# EAGLE library part MECHANICAL_USB-AB-MINI (library chipKIT_Max32)
Kycon KMAB-SMT-5S Mini USB AB type connector
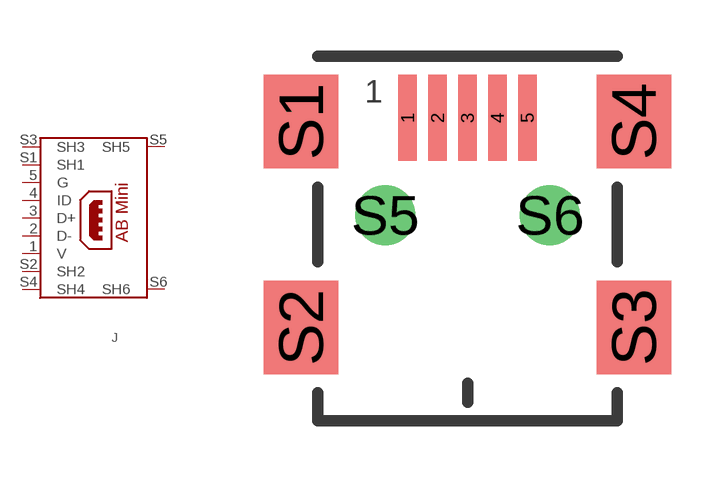
[diagram p7: symbol with the pads of MECHANICAL_USB-AB-MINI; footprint MECHANICAL_USB-AB-MINI]

Designator prefix J

## MECHANICAL_USB-AB-MINI  [MECHANICAL_USB-AB-MINI]
1  V
2  D-
3  D+
4  ID
5  G
S1  SH1
S2  SH2
S3  SH3
S4  SH4
S5  SH5
S6  SH6

## Footprint MECHANICAL_USB-AB-MINI (pad centres in mm)
Kycon KMAB-SMT-5S Shielded Surface mount USB type AB mini connector
smd 0.5 x 2.3: 1 -1.6,2.6; 2 -0.8,2.6; 3 0,2.6; 4 0.8,2.6; 5 1.6,2.6
smd 2 x 2.5: S1 -4.45,2.5; S2 -4.45,-3; S3 4.45,-3; S4 4.45,2.5
drill 1.067: S5 -2.2,0; S6 2.2,0